# Altium footprint library SC_SO4.PcbLib: 1 footprints
Each footprint in its own frame and in the unit in brackets; x right, y up, seen from the top. Pads: shape width x height; smd on the part's side, far side on the other; paste and mask are expansions set on the pad; w line width, h text height; cw(c..) or ccw(c..) is an arc to the next point about the centre after c.
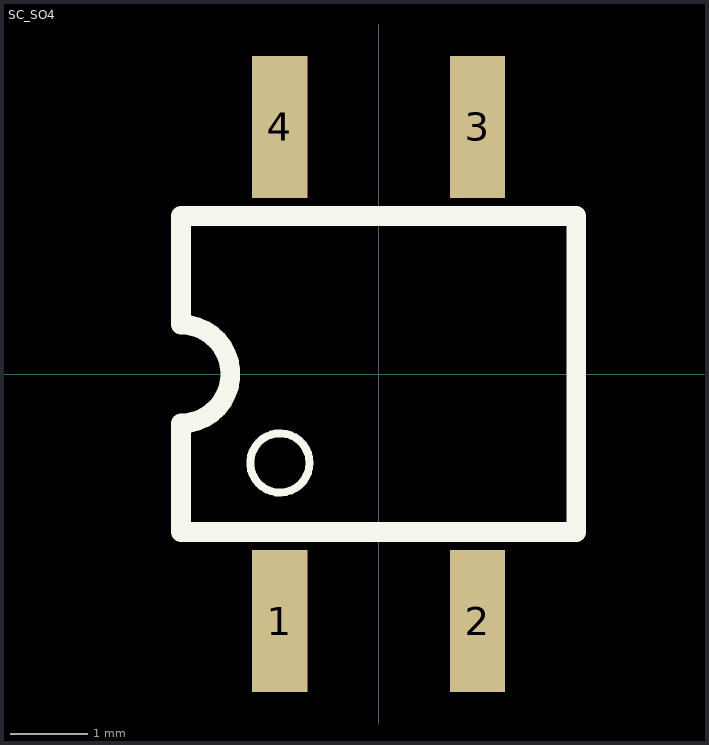
[diagram p0: the footprint, top view; thin cyan lines are the x and y axes]

## SC_SO4 [mil] "SO4"
pads (4):
  rect 28x72 smd: 1(-50,-125) 2(50,-125) 3(50,125) 4(-50,125)
Top Overlay:
  circle w4: c-50,-45 r15
  lines w10: -100,-80 100,-80 100,80 -100,80 -100,25 cw(c-100,0) -100,-25 -100,-80
3D body: height 81.31, standoff 0.6, extent -78.74,-135.03 78.74,135.05